# EAGLE library part M27C512-90F6 (library ST_Microelctronics_By_element14_Batch_1)
UV EPROM and OTP EPROM
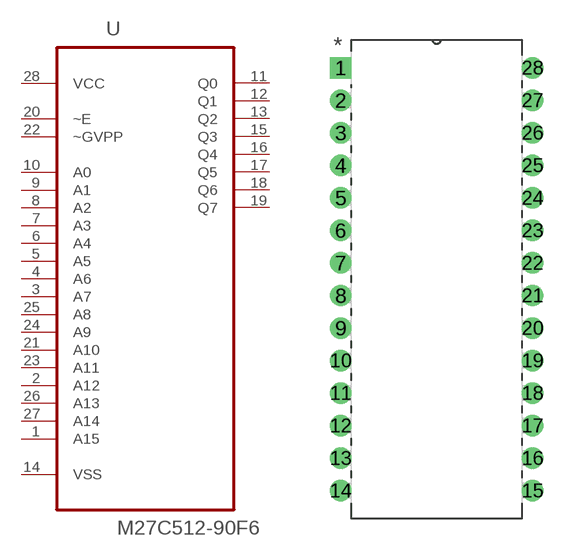
[diagram p177: symbol with the pads of DIP254P1524X572-28; footprint DIP254P1524X572-28]

Designator prefix U

## M27C512-90F6 (MPN: M27C512-90F6; OC_FARNELL: 1094264; OC_NEWARK: 93K7338; PACKAGE: PDIP-28; SUPPLIER: STMICROELECTRONICS)  [DIP254P1524X572-28]
1  A15  in
2  A12  in
3  A7  in
4  A6  in
5  A5  in
6  A4  in
7  A3  in
8  A2  in
9  A1  in
10  A0  in
11  Q0  out
12  Q1  out
13  Q2  out
14  VSS  pwr
15  Q3  out
16  Q4  out
17  Q5  out
18  Q6  out
19  Q7  out
20  ~E  in
21  A10  in
22  ~GVPP  in
23  A11  in
24  A9  in
25  A8  in
26  A13  in
27  A14  in
28  VCC  pwr

## Footprint DIP254P1524X572-28 (pad centres in mm)
drill 1.118 square: 1 -14.986,33.02
drill 1.118: 2 -14.986,30.48; 3 -14.986,27.94; 4 -14.986,25.4; 5 -14.986,22.86; 6 -14.986,20.32; 7 -14.986,17.78; 8 -14.986,15.24; 9 -14.986,12.7; 10 -14.986,10.16; 11 -14.986,7.62; 12 -14.986,5.08; 13 -14.986,2.54; 14 -14.986,0; 15 0,0; 16 0,2.54; 17 0,5.08; 18 0,7.62; 19 0,10.16; 20 0,12.7; 21 0,15.24; 22 0,17.78; 23 0,20.32; 24 0,22.86; 25 0,25.4; 26 0,27.94; 27 0,30.48; 28 0,33.02